# Altium footprint library TSSOP-24.PCBLIB: 1 footprints
Each footprint in its own frame and in the unit in brackets; x right, y up, seen from the top. Pads: shape width x height; smd on the part's side, far side on the other; paste and mask are expansions set on the pad; w line width, h text height; cw(c..) or ccw(c..) is an arc to the next point about the centre after c.
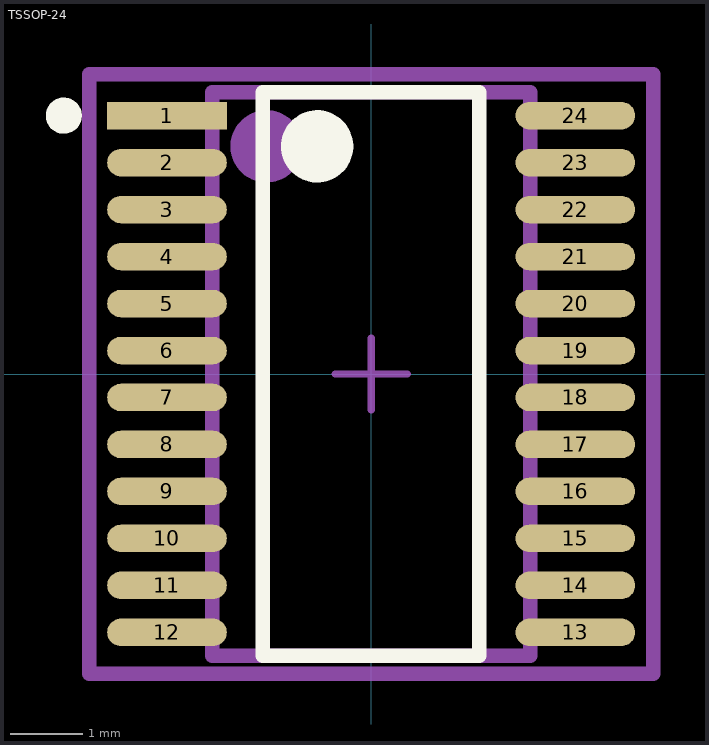
[diagram p0: the footprint, top view; thin cyan lines are the x and y axes]

## TSSOP-24 [mm]
pads (24):
  rect 1.655x0.381 smd paste+0 mask+0: 1(-2.825,3.575)
  rrect100% 1.655x0.381 smd paste+0 mask+0: 2(-2.825,2.925) 3(-2.825,2.275) 4(-2.825,1.625) 5(-2.825,0.975) 6(-2.825,0.325) 7(-2.825,-0.325) 8(-2.825,-0.975) 9(-2.825,-1.625) 10(-2.825,-2.275) 11(-2.825,-2.925) 12(-2.825,-3.575) 13(2.825,-3.575) 14(2.825,-2.925) 15(2.825,-2.275) 16(2.825,-1.625) 17(2.825,-0.975) 18(2.825,-0.325) 19(2.825,0.325) 20(2.825,0.975) 21(2.825,1.625) 22(2.825,2.275) 23(2.825,2.925) 24(2.825,3.575)
Top Overlay:
  circle w0.25: c-4.253,3.575 r0.125
  circle w0.5: c-0.748,3.15 r0.25
  lines w0.2: -1.498,-3.9 -1.498,3.9 1.498,3.9 1.498,-3.9 -1.498,-3.9
Top Assembly:
  circle w0.5: c-1.448,3.15 r0.25
  lines w0.2: -2.2,-3.9 -2.2,3.9 2.2,3.9 2.2,-3.9 -2.2,-3.9
Top Courtyard:
  lines w0.2: -3.903,-4.15 -3.903,4.15 3.903,4.15 3.903,-4.15 -3.903,-4.15
Top Designator:
  text ".Designator" at -0.3,-0.2 h0.76
Top Component Center:
  lines w0.1: -0.5,0 0.5,0 ; 0,-0.5 0,0.5
3D body "IC_Texas_Instruments_SN74LVC8T245PWR_eec.STEP": height 0.25, standoff 0, extent -3.903,-4.15 3.903,4.15